# EAGLE library part SST25VF080B (library Pygmy)
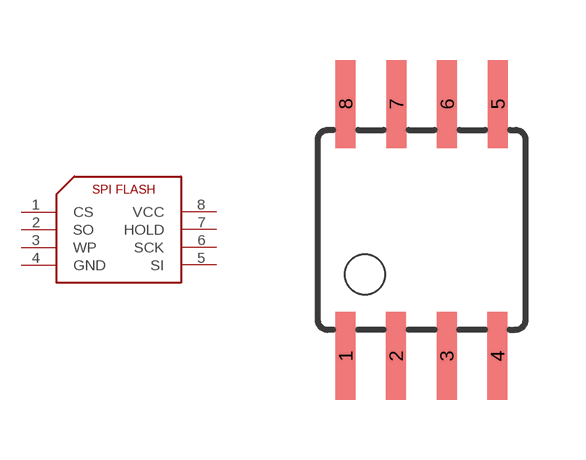
[diagram p13: symbol with the pads of DUBLIB_SOIC8; footprint DUBLIB_SOIC8]

Designator prefix -

## SST25VF080B  [DUBLIB_SOIC8]
1  CS
2  SO
3  WP
4  GND
5  SI
6  SCK
7  HOLD
8  VCC

## Footprint DUBLIB_SOIC8 (pad centres in mm)
Wide Plastic Gull Wing Small Outline Package
smd 0.5 x 2.2: 1 -1.905,-3.154; 2 -0.645,-3.154; 3 0.625,-3.154; 4 1.895,-3.154; 5 1.905,3.154; 6 0.635,3.154; 7 -0.635,3.154; 8 -1.905,3.154